# EAGLE library part 691406510009B (library Wurth_Connectors_WR-TBL Spring Clamp)
WR-TBL Series 4065B - Screwless Push In 5.08 mm pitch - Horizontal cable entry - THT KIND PROPERTIES Pitch 5.08 mm GENERAL INFORMATION Operating Temperature -40 up to +105 °C Mechanical Properties Wire Strip Length 9 up to 10 (mm) Wire Properties Solid Wire Section (AWG) 24 to 12 (AWG) Solid Wire Section (Metric) 0.2 to 2.5 (mm²) Stranded Wire Section (AWG) 24 to 12 (AWG) Stranded Wire Section (Metric) 0.2 to 2.5 (mm²) MATERIAL PROPERTIES Insulator Material PA66 Insulator Flammability Rating UL94 V-0 Insulator Color Green Spring Material Stainless Steel ELECTRICAL PROPERTIES IR cULus 20 A Working Voltage 300 V Working Voltage [cULus] 300 V Withstanding Voltage [cULus] 1600 V Contact Resistance [cULus] 20 mΩ CERTIFICATION cULus Approval E315414 Packaging Properties Packaging Box <https://www.we-online.com/catalog/media/o257335v209%206914065100xxB_multi-parts.jpg> Details see: https://www.we-online.com/catalog/en/WR-TBL_SERIES4065B_SCREWLESSPUSHIN_5_08MM-PITCH_HORIZONTAL-CABLE-ENTRY_THT Created by Ella Wu 2021-02-23 2021(C) Wurth Elektronik
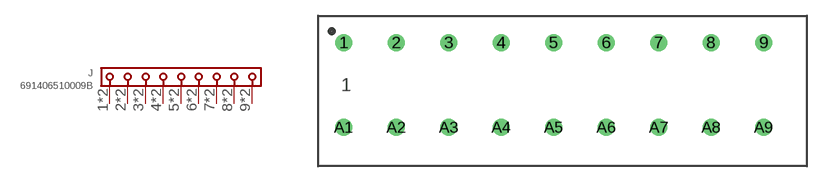
[diagram p123: symbol with the pads of 691406510009B; footprint 691406510009B]

Designator prefix J

## 691406510009B (DATASHEET-URL: https://www.we-online.com/redexpert/spec/691406510009B?ae; IR-UL: 20A; MOUNT: THT; PART-NUMBER: 691406510009B; PINS: 9; PITCH: 5.08mm; TYPE: Horizontal Cable Entry; VALUE: 691406510009B; WIRE: 24 to 12 (AWG) 0.2 to 2.5 (mm²); WORKING-VOLTAGE-UL: 300V (AC))  [691406510009B]
1  1  pas
2  2  pas
3  3  pas
4  4  pas
5  5  pas
6  6  pas
7  7  pas
8  8  pas
9  9  pas
A1  1  pas
A2  2  pas
A3  3  pas
A4  4  pas
A5  5  pas
A6  6  pas
A7  7  pas
A8  8  pas
A9  9  pas

## Footprint 691406510009B (pad centres in mm)
WR-TBL Series 4065B - Screwless Push In 5.08 mm pitch - Horizontal cable entry - THT Series 4065B, Pitch 5.08mm,THT, 9pins
drill 1.1: 1 -20.32,4.1; 2 -15.24,4.1; 3 -10.16,4.1; 4 -5.08,4.1; 5 0,4.1; 6 5.08,4.1; 7 10.16,4.1; 8 15.24,4.1; 9 20.32,4.1; A1 -20.32,-4.1; A2 -15.24,-4.1; A3 -10.16,-4.1; A4 -5.08,-4.1; A5 0,-4.1; A6 5.08,-4.1; A7 10.16,-4.1; A8 15.24,-4.1; A9 20.32,-4.1